# EAGLE library part 10220-55G3PC (library 3M_By_element14_Batch_1)
Mini Ribbon Connector
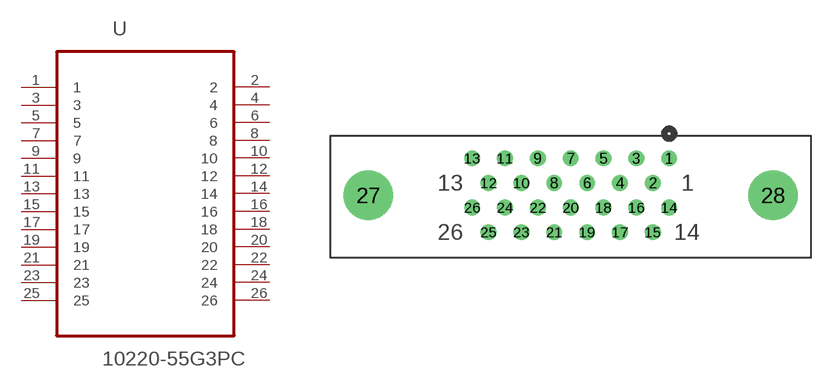
[diagram p1: symbol with the pads of 3M_10220-55G3PC; footprint 3M_10220-55G3PC]

Designator prefix U

## 10220-55G3PC (MPN: 10220-55G3PC; OC_FARNELL: 1252879; OC_NEWARK: 93K6330; PACKAGE: Mini Ribbon Connector-26Pin; SUPPLIER: 3M)  [3M_10220-55G3PC]
1  1  pas
2  2  pas
3  3  pas
4  4  pas
5  5  pas
6  6  pas
7  7  pas
8  8  pas
9  9  pas
10  10  pas
11  11  pas
12  12  pas
13  13  pas
14  14  pas
15  15  pas
16  16  pas
17  17  pas
18  18  pas
19  19  pas
20  20  pas
21  21  pas
22  22  pas
23  23  pas
24  24  pas
25  25  pas
26  26  pas

## Footprint 3M_10220-55G3PC (pad centres in mm)
drill 0.711: 1 15.24,5.715; 2 13.97,3.81; 3 12.7,5.715; 4 11.43,3.81; 5 10.16,5.715; 6 8.89,3.81; 7 7.62,5.715; 8 6.35,3.81; 9 5.08,5.715; 10 3.81,3.81; 11 2.54,5.715; 12 1.27,3.81; 13 0,5.715; 14 15.24,1.905; 15 13.97,0; 16 12.7,1.905; 17 11.43,0; 18 10.16,1.905; 19 8.89,0; 20 7.62,1.905; 21 6.35,0; 22 5.08,1.905; 23 3.81,0; 24 2.54,1.905; 25 1.27,0; 26 0,1.905
drill 2.794: 27 -8.026,2.845; 28 23.266,2.845